# Altium schematic symbol library Driver_Motor.SchLib: 2 symbols
Pins are listed as number, name and electrical type; pins without a type are passive.

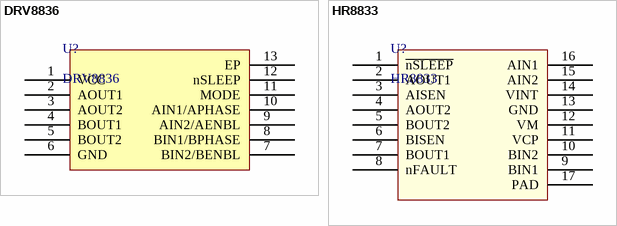
[diagram p0: symbols DRV8836 to HR8833]

## DRV8836
designator U?
Dual H-Bridge motor driver
footprint SON-12-1EP_3x2mm_P0.5mm_EP2x0.88mm_ThermalVias (SON, 12-Leads, Body 3.00x2.00mm, Pitch 0.50mm, Thermal Pad 2.00x0.88mm, IPC Medium Density)
pins: 1 VCC, 2 AOUT1, 3 AOUT2, 4 BOUT1, 5 BOUT2, 6 GND, 7 BIN2/BENBL, 8 BIN1/BPHASE, 9 AIN2/AENBL, 10 AIN1/APHASE, 11 MODE, 12 nSLEEP, 13 EP

## HR8833
designator U?
1.5A 双路H桥驱动
footprint SSOP-16-1EP_4.4x5mm_P0.65_EP3.4x5mm (TSOP, 16-Leads, Body 5.00x4.40mm, Pitch 0.65mm, Thermal Pad 3.30x3.30mm, IPC Medium Density)
pins: 1 ~{nSLEEP}, 2 AOUT1, 3 AISEN, 4 AOUT2, 5 BOUT2, 6 BISEN, 7 BOUT1, 8 nFAULT, 9 BIN1, 10 BIN2, 11 VCP, 12 VM, 13 GND, 14 VINT, 15 AIN2, 16 AIN1, 17 PAD